# EAGLE library part LM2931 (library v-reg)
Low Dropout Regulator
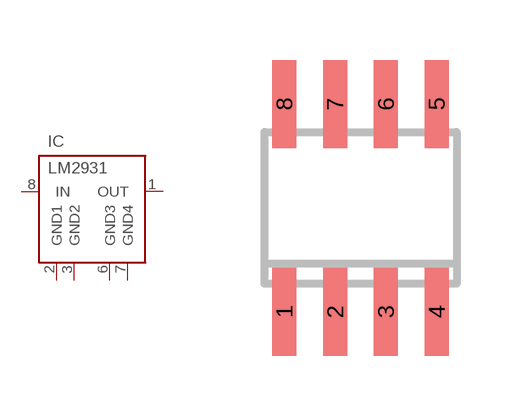
[diagram p1: symbol with the pads of SOIC8; footprint SOIC8]

Designator prefix IC

## LM2931  [SOIC8]
1  OUT
2  GND1
3  GND2
6  GND3
7  GND4
8  IN

## Footprint SOIC8 (pad centres in mm)
smd 0.6 x 2.2: 1 -1.905,-2.6; 2 -0.635,-2.6; 3 0.635,-2.6; 4 1.905,-2.6; 5 1.905,2.6; 6 0.635,2.6; 7 -0.635,2.6; 8 -1.905,2.6